# Altium schematic symbol library UC3843BD1R2G.Schlib: 1 symbol
Pins are listed as number, name and electrical type; pins without a type are passive.

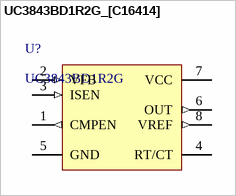
[diagram p0: symbol UC3843BD1R2G_[C16414]]

## UC3843BD1R2G_[C16414]
designator U?, comment UC3843BD1R2G
开关电源
footprint SOIC-8_150mil
pins: 1 CMPEN (out), 2 VFB (in), 3 ISEN (in), 4 RT/CT, 5 GND (power), 6 OUT (out), 7 VCC (power), 8 VREF (out)